# Altium schematic symbol library lib_Gabriel.SchLib: 10 symbols
Pins are listed as number, name and electrical type; pins without a type are passive.

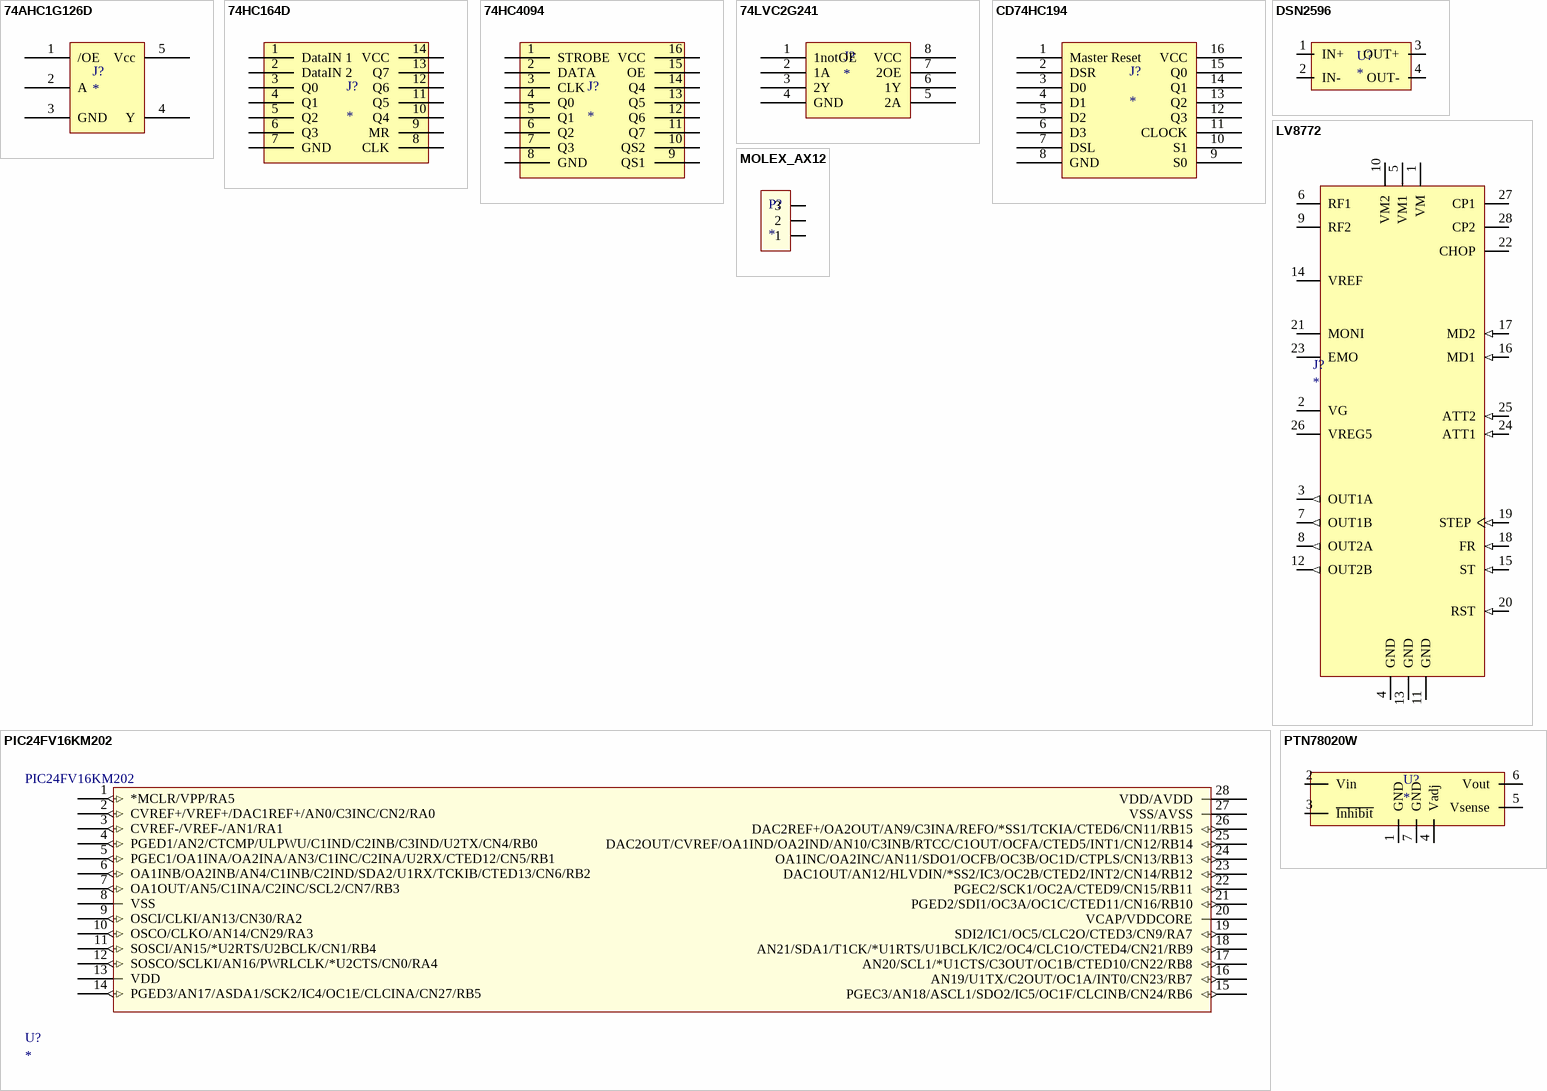
[diagram p0: symbols 74AHC1G126D to PTN78020W]

## 74AHC1G126D
designator J?
Porte 3 états
footprint 74AHC1G126DVBR
pins: 1 /OE, 2 A, 3 GND, 4 Y, 5 Vcc

## 74HC164D
designator J?
Shift Register 8 bits
footprint SO14_N (SOIC, 14-Leads, Body 8.7x3.9mm, Pitch 1.27mm, IPC Medium Density)
pins: 1 DataIN 1, 2 DataIN 2, 3 Q0, 4 Q1, 5 Q2, 6 Q3, 7 GND, 8 CLK, 9 MR, 10 Q4, 11 Q5, 12 Q6, 13 Q7, 14 VCC

## 74HC4094
designator J?
Shift Register 8 bits
footprint SOIC16N_M (Footprint not found)
pins: 1 STROBE, 2 DATA, 3 CLK, 4 Q0, 5 Q1, 6 Q2, 7 Q3, 8 GND, 9 QS1, 10 QS2, 11 Q7, 12 Q6, 13 Q5, 14 Q4, 15 OE, 16 VCC

## 74LVC2G241
designator J?
Porte 3 états double
footprint TSSOP-ST8_N (Footprint not found)
pins: 1 1notOE, 2 1A, 3 2Y, 4 GND, 5 2A, 6 1Y, 7 2OE, 8 VCC

## CD74HC194
designator J?
Shift Register 4 bits
footprint TSSOP16_N (Footprint not found)
pins: 1 Master Reset, 2 DSR, 3 D0, 4 D1, 5 D2, 6 D3, 7 DSL, 8 GND, 9 S0, 10 S1, 11 CLOCK, 12 Q3, 13 Q2, 14 Q1, 15 Q0, 16 VCC

## DSN2596
designator U?
Module Buck 24V 12V 5V - 3A
pins: 1 IN+, 2 IN-, 3 OUT+, 4 OUT-

## LV8772
designator J?
Driver Pas à Pas
pins: 1 VM (power), 2 VG, 3 OUT1A (out), 4 GND, 5 VM1, 6 RF1, 7 OUT1B (out), 8 OUT2A (out), 9 RF2, 10 VM2, 11 GND, 12 OUT2B (out), 13 GND, 14 VREF, 15 ST (in), 16 MD1 (in), 17 MD2 (in), 18 FR (in), 19 STEP (in), 20 RST (in), 21 MONI, 22 CHOP, 23 EMO, 24 ATT1 (in), 25 ATT2 (in), 26 VREG5, 27 CP1, 28 CP2

## MOLEX_AX12
designator P?
Connecteur
footprint MOLEX_AX12_3
pins: 1, 2, 3

## PIC24FV16KM202
designator U?
PIC24FV16KM202; Supplier 1: Mouser; Supplier Part Number 1: PIC24FV16KM202
footprint PIC24FV16KM202
pins: 1 *MCLR/VPP/RA5 (io), 2 CVREF+/VREF+/DAC1REF+/AN0/C3INC/CN2/RA0 (io), 3 CVREF-/VREF-/AN1/RA1 (io), 4 PGED1/AN2/CTCMP/ULPWU/C1IND/C2INB/C3IND/U2TX/CN4/RB0 (io), 5 PGEC1/OA1INA/OA2INA/AN3/C1INC/C2INA/U2RX/CTED12/CN5/RB1 (io), 6 OA1INB/OA2INB/AN4/C1INB/C2IND/SDA2/U1RX/TCKIB/CTED13/CN6/RB2 (io), 7 OA1OUT/AN5/C1INA/C2INC/SCL2/CN7/RB3 (io), 8 VSS (power), 9 OSCI/CLKI/AN13/CN30/RA2 (io), 10 OSCO/CLKO/AN14/CN29/RA3 (io), 11 SOSCI/AN15/*U2RTS/U2BCLK/CN1/RB4 (io), 12 SOSCO/SCLKI/AN16/PWRLCLK/*U2CTS/CN0/RA4 (io), 13 VDD (power), 14 PGED3/AN17/ASDA1/SCK2/IC4/OC1E/CLCINA/CN27/RB5 (io), 15 PGEC3/AN18/ASCL1/SDO2/IC5/OC1F/CLCINB/CN24/RB6 (io), 16 AN19/U1TX/C2OUT/OC1A/INT0/CN23/RB7 (io), 17 AN20/SCL1/*U1CTS/C3OUT/OC1B/CTED10/CN22/RB8 (io), 18 AN21/SDA1/T1CK/*U1RTS/U1BCLK/IC2/OC4/CLC1O/CTED4/CN21/RB9 (io), 19 SDI2/IC1/OC5/CLC2O/CTED3/CN9/RA7 (io), 20 VCAP/VDDCORE (power), 21 PGED2/SDI1/OC3A/OC1C/CTED11/CN16/RB10 (io), 22 PGEC2/SCK1/OC2A/CTED9/CN15/RB11 (io), 23 DAC1OUT/AN12/HLVDIN/*SS2/IC3/OC2B/CTED2/INT2/CN14/RB12 (io), 24 OA1INC/OA2INC/AN11/SDO1/OCFB/OC3B/OC1D/CTPLS/CN13/RB13 (io), 25 DAC2OUT/CVREF/OA1IND/OA2IND/AN10/C3INB/RTCC/C1OUT/OCFA/CTED5/INT1/CN12/RB14 (io), 26 DAC2REF+/OA2OUT/AN9/C3INA/REFO/*SS1/TCKIA/CTED6/CN11/RB15 (io), 27 VSS/AVSS (power), 28 VDD/AVDD (power)

## PTN78020W
designator U?
Alim à découpage 6A
pins: 1 GND, 2 Vin, 3 ~{Inhibit}, 4 Vadj, 5 Vsense, 6 Vout, 7 GND